# Altium schematic symbol library DANCE_LIB_REV2.SchLib: 136 symbols (part 2 of 2)
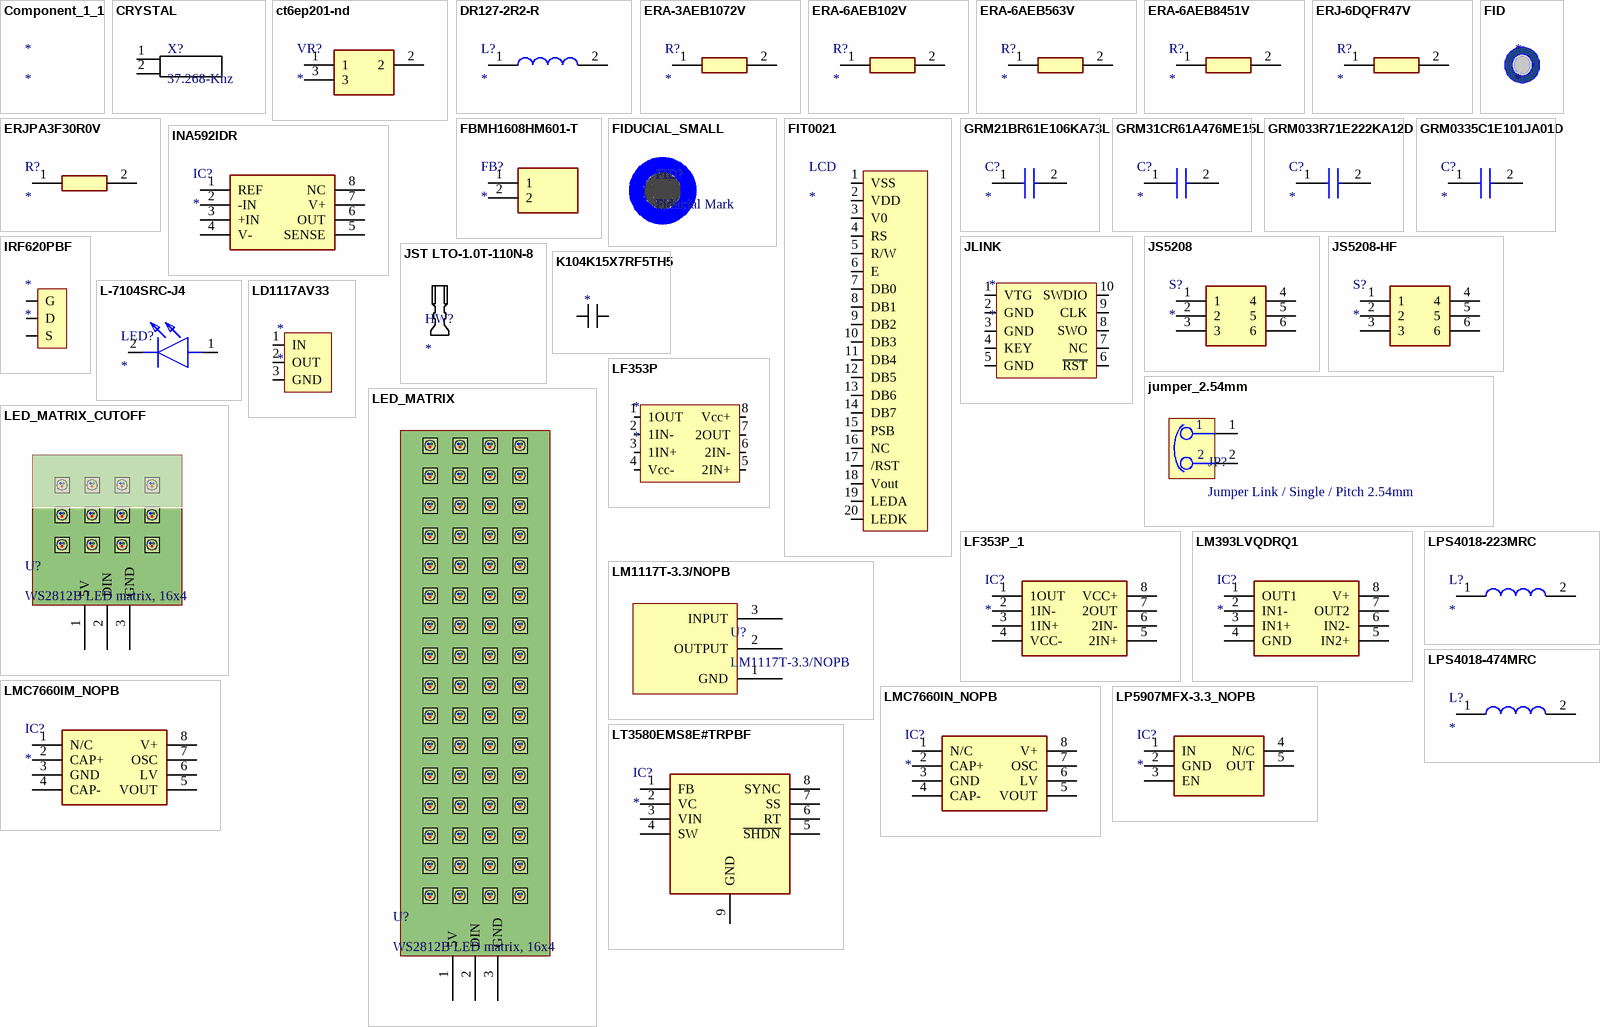
[diagram p4: symbols Component_1_1 to LT3580EMS8E#TRPBF]

## LMC7660IN_NOPB
designator IC?
Integrated Circuit; Manufacturer_Name: Texas Instruments; Manufacturer_Part_Number: LMC7660IN/NOPB; Datasheet Link: http://www.ti.com/lit/gpn/lmc7660; Height: 5.08mm; Mouser Part Number: 926-LMC7660IN/NOPB; Mouser Price/Stock: https://www.mouser.co.uk/ProductDetail/Texas-Instruments/LMC7660IN-NOPB?qs=7lkVKPoqpbYEdm6mfQWnbw%3D%3D; Arrow Part Number: LMC7660IN/NOPB; Arrow Price/Stock: https://www.arrow.com/en/products/lmc7660innopb/texas-instruments?region=nac
footprint DIP794W53P254L959H508Q8N
pins: 1 N/C, 2 CAP+, 3 GND, 4 CAP-, 5 VOUT, 6 LV, 7 OSC, 8 V+

## LP5907MFX-3.3_NOPB
designator IC?
Integrated Circuit; Manufacturer_Name: Texas Instruments; Manufacturer_Part_Number: LP5907MFX-3.3/NOPB; Datasheet Link: https://datasheet.datasheetarchive.com/originals/distributors/Datasheets-SFU2/DSASFU100037200.pdf; Height: 1.45mm; Mouser Part Number: 595-LP5907MFX-3.3NPB; Mouser Price/Stock: https://www.mouser.co.uk/ProductDetail/Texas-Instruments/LP5907MFX-3.3-NOPB?qs=biyDIajrTn6NhrJCoL%2FdSQ%3D%3D; Arrow Part Number: LP5907MFX-3.3/NOPB; Arrow Price/Stock: https://www.arrow.com/en/products/lp5907mfx-3.3nopb/texas-instruments?utm_currency=USD&region=nac
footprint SOT95P280X145-5N
pins: 1 IN, 2 GND, 3 EN, 4 N/C, 5 OUT

## LPS4018-223MRC
designator L?
Inductor; Manufacturer_Name: COILCRAFT; Manufacturer_Part_Number: LPS4018-223MRC; Datasheet Link: https://www.coilcraft.com/pdfs/lps4018.pdf; Height: 1.8mm; Mouser Part Number: 994-LPS4018-223MRC; Mouser Price/Stock: https://www.mouser.co.uk/ProductDetail/Coilcraft/LPS4018-223MRC?qs=QQJxVsr8EGZ1iTyTHMP0jg%3D%3D
footprint LPS4018223MRC
pins: 1, 2

## LPS4018-474MRC
designator L?
Inductor; Manufacturer_Name: COILCRAFT; Manufacturer_Part_Number: LPS4018-474MRC; Datasheet Link: https://www.coilcraft.com/getmedia/31b05c96-4c4c-4498-8dbb-fe092de76bad/lps4018.pdf; Height: 1.8mm; Mouser Part Number: 994-LPS4018-474MRC; Mouser Price/Stock: https://www.mouser.co.uk/ProductDetail/Coilcraft/LPS4018-474MRC?qs=QQJxVsr8EGb2vAIMxceghQ%3D%3D
footprint LPS4018474MRC
pins: 1, 2

## LT3580EMS8E#TRPBF
designator IC?
Integrated Circuit; Manufacturer_Name: Analog Devices; Manufacturer_Part_Number: LT3580EMS8E#TRPBF; Datasheet Link: https://www.analog.com/LT3580/datasheet; Height: 1.1mm; Mouser Part Number: 584-LT3580EMS8ETRPBF; Mouser Price/Stock: https://www.mouser.co.uk/ProductDetail/Analog-Devices/LT3580EMS8ETRPBF?qs=hVkxg5c3xu8cvBOlVyNweg%3D%3D; Arrow Part Number: LT3580EMS8E#TRPBF; Arrow Price/Stock: https://www.arrow.com/en/products/lt3580ems8etrpbf/analog-devices?region=nac
footprint SOP65P490X110-9N
pins: 1 FB, 2 VC, 3 VIN, 4 SW, 5 ~{SHDN}, 6 RT, 7 SS, 8 SYNC, 9 GND

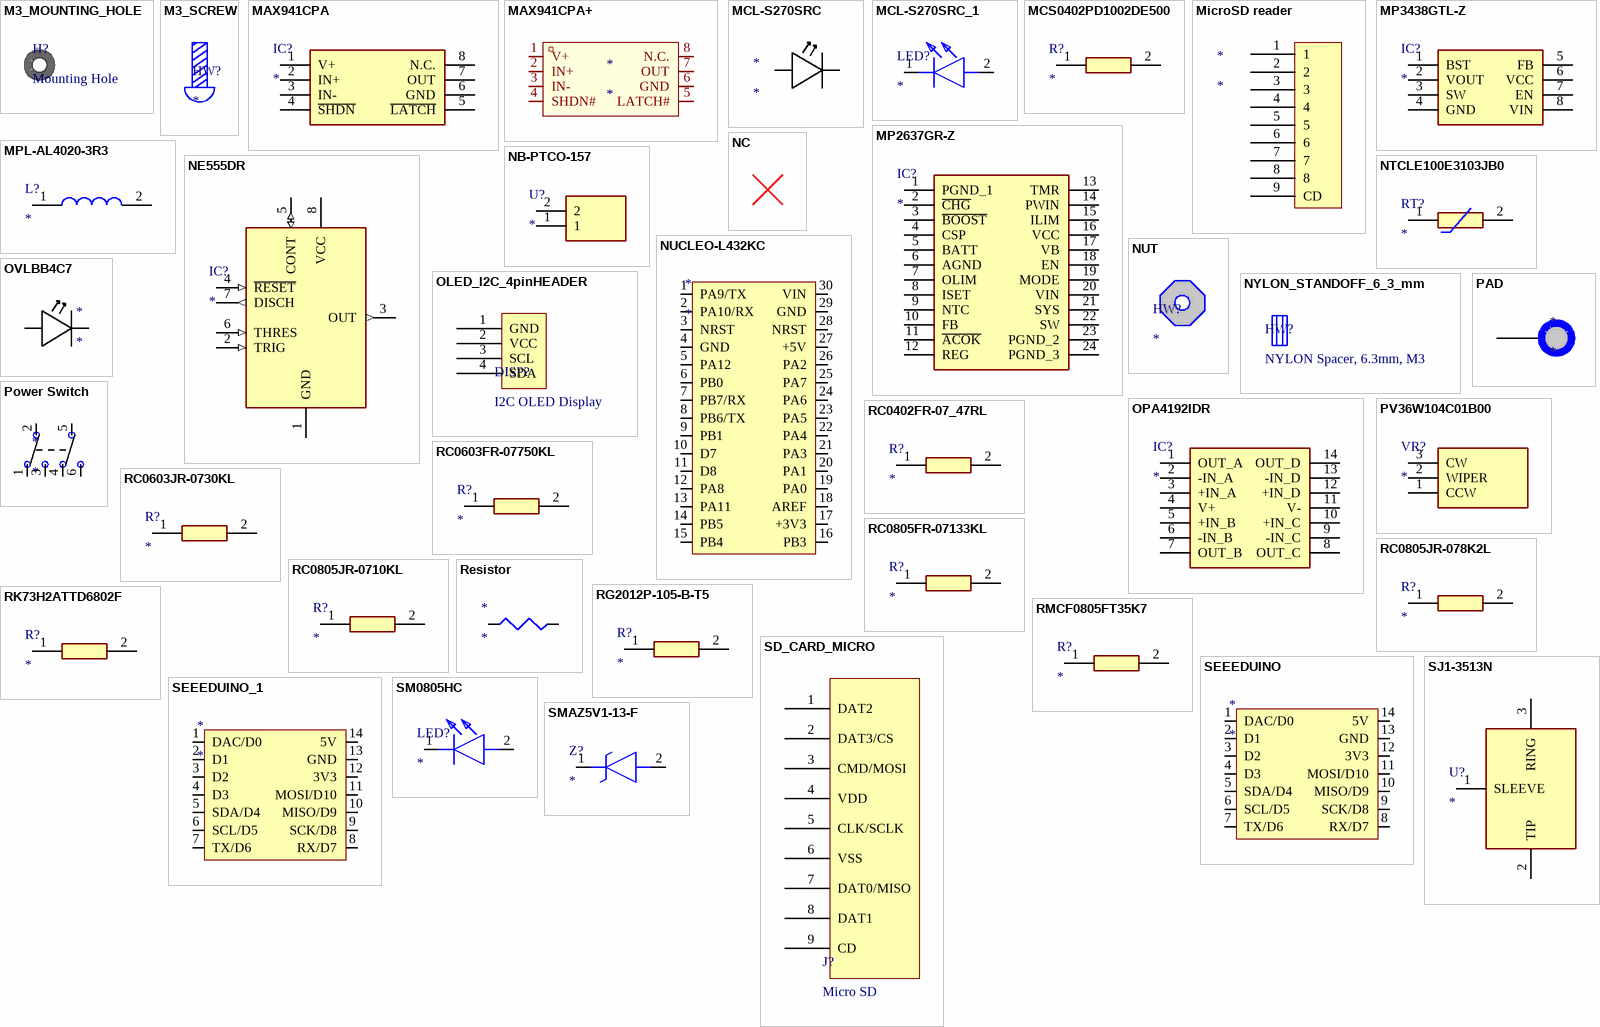
[diagram p2: symbols M3_MOUNTING_HOLE to SMAZ5V1-13-F]

## M3_MOUNTING_HOLE
designator H?, comment Mounting Hole
M3 Mounting hole (3.4mm)
footprint M3_MOUNTING_HOLE_3_4_mm

## M3_SCREW
designator HW?

## MAX941CPA
designator IC?
Integrated Circuit; Manufacturer_Name: Analog Devices; Manufacturer_Part_Number: MAX941CPA; Datasheet Link: https://datasheets.maximintegrated.com/en/ds/MAX941-MAX944.pdf; Height: 4.572mm; Mouser Part Number: 700-MAX941CPA-NR; Mouser Price/Stock: https://www.mouser.co.uk/ProductDetail/Maxim-Integrated/MAX941CPA?qs=d3kjJb5aE2ahdXQCB6GxHQ%3D%3D
footprint DIP794W56P254L938H457Q8N
pins: 1 V+, 2 IN+, 3 IN-, 4 ~{SHDN}, 5 ~{LATCH}, 6 GND, 7 OUT, 8 N.C.

## MAX941CPA+
designator *
footprint MAX1
pins: 1 V+, 2 IN+, 3 IN-, 4 SHDN#, 5 LATCH#, 6 GND, 7 OUT, 8 N.C.

## MCL-S270SRC
designator *
Led, SMD, 0805, Super-red; Manufacturer: Multicomp; Manufacturer Part Number: MCL-S270SRC; Forward Voltage: 1.85V; Luminous Intensity: 17mcd; Wavelength: 643nm; Viewing Angle: 140°; Current Rating: 20mA; Lens Style: Rectangular; Max Power Dissipation: 100mW; Supplier 1: Farnell; RoHS: Yes; Category: LEDs; Pricing 1: 5=0.101, 10=0.0866, 100=0.0673, 500=0.0551, 1000=0.0505 (GBP); Mount: Surface Mount; Case/Package: 0805; Number of Pins: 2; Color: Red; Min Operating Temperature: -40°C; Max Operating Temperature: 85°C; Packaging: Cut Tape; Forward Current: 20mA; Dominant Wavelength: 643nm; Power Dissipation: 100mW; Reach SVHC Compliant: No; ComponentLink1URL: https://datasheet.ciiva.com/23621/53023-23621319.pdf?src-supplier=Newark; ComponentLink1Description: https://datasheet.ciiva.com/23621/53023-23621319.pdf?src-supplier=Newark; ComponentLink2URL: https://datasheet.ciiva.com/8028/1671534-8028336.pdf?src-supplier=Element14; ComponentLink2Description: https://datasheet.ciiva.com/8028/1671534-8028336.pdf?src-supplier=Element14; Supplier Part Number 1: 1581239
footprint LED SURFACE MOUNT
pins: 1 2, 2 1

## MCL-S270SRC_1
designator LED?
LED; Manufacturer_Name: Multicomp Pro; Manufacturer_Part_Number: MCL-S270SRC; Datasheet Link: https://www.farnell.com/datasheets/2861594.pdf; Height: 0.9mm
footprint LEDC2012X90N
pins: 1 K, 2 A

## MCS0402PD1002DE500
designator R?
Resistor; Manufacturer_Name: Vishay; Manufacturer_Part_Number: MCS0402PD1002DE500; Datasheet Link: http://www.vishay.com/docs/28705/mcx0x0xpro.pdf; Height: 0.37mm; Mouser Part Number: 594-MCS0402PD1002DP5; Mouser Price/Stock: https://www.mouser.co.uk/ProductDetail/Vishay-Beyschlag/MCS0402PD1002DE500?qs=5aG0NVq1C4zR%252BBMz07%252BcAg%3D%3D; Arrow Part Number: MCS0402PD1002DE500; Arrow Price/Stock: https://www.arrow.com/en/products/mcs0402pd1002de500/vishay
footprint RESC1005X37N
pins: 1, 2

## MicroSD reader
designator *
footprint SD CARD
pins: 1, 2, 3, 4, 5, 6, 7, 8, 9 CD

## MP2637GR-Z
designator IC?
Integrated Circuit; Manufacturer_Name: Monolithic Power Systems (MPS); Manufacturer_Part_Number: MP2637GR-Z; Datasheet Link: http://www.monolithicpower.com/DesktopModules/DocumentManage/API/Document/getDocument?id=3326; Height: 1mm; Mouser Part Number: 946-MP2637GR-Z; Mouser Price/Stock: https://www.mouser.co.uk/ProductDetail/Monolithic-Power-Systems-MPS/MP2637GR-Z?qs=493kPxzlxfKNmuqrCqIh9g%3D%3D
footprint MP2637GRZ
pins: 1 PGND_1, 2 ~{CHG}, 3 ~{BOOST}, 4 CSP, 5 BATT, 6 AGND, 7 OLIM, 8 ISET, 9 NTC, 10 FB, 11 ~{ACOK}, 12 REG, 13 TMR, 14 PWIN, 15 ILIM, 16 VCC, 17 VB, 18 EN, 19 MODE, 20 VIN, 21 SYS, 22 SW, 23 PGND_2, 24 PGND_3

## MP3438GTL-Z
designator IC?
Integrated Circuit; Manufacturer_Name: Monolithic Power Systems (MPS); Manufacturer_Part_Number: MP3438GTL-Z; Datasheet Link: https://www.monolithicpower.com/en/documentview/productdocument/index/version/2/document_type/Datasheet/lang/en/sku/MP3438GTL/; Height: 0.6mm; Mouser Part Number: 946-MP3438GTL-Z; Mouser Price/Stock: https://www.mouser.co.uk/ProductDetail/Monolithic-Power-Systems-MPS/MP3438GTL-Z?qs=tlsG%2FOw5FFjfFO8TaWv5UA%3D%3D
footprint SOTFL50P160X60-8N
pins: 1 BST, 2 VOUT, 3 SW, 4 GND, 5 FB, 6 VCC, 7 EN, 8 VIN

## MPL-AL4020-3R3
designator L?
Inductor; Manufacturer_Name: Monolithic Power Systems (MPS); Manufacturer_Part_Number: MPL-AL4020-3R3; Datasheet Link: https://www.monolithicpower.com/en/documentview/productdocument/index/version/2/document_type/Datasheet/lang/en/sku/MPL-AL4020-3R3/document_id/5795/; Height: 2.1mm; Mouser Part Number: 946-MPL-AL4020-3R3; Mouser Price/Stock: https://www.mouser.co.uk/ProductDetail/Monolithic-Power-Systems-MPS/MPL-AL4020-3R3?qs=sPbYRqrBIVnE90fmE2PrGQ%3D%3D
footprint MPLAL40203R3
pins: 1, 2

## NB-PTCO-157
designator U?
Undefined or Miscellaneous; Manufacturer_Name: TE Connectivity; Manufacturer_Part_Number: NB-PTCO-157; Datasheet Link: https://www.te.com/commerce/DocumentDelivery/DDEController?Action=srchrtrv&DocNm=PTF-FAMILY&DocType=Data%20Sheet&DocLang=English&PartCntxt=NB-PTCO-157&DocFormat=pdf; Height: 2.5mm; Mouser Part Number: 824-NB-PTCO-157; Mouser Price/Stock: https://www.mouser.co.uk/ProductDetail/Measurement-Specialties/NB-PTCO-157?qs=oFx6pF86PmBL8z2guunwvA%3D%3D; Arrow Part Number: NB-PTCO-157; Arrow Price/Stock: https://www.arrow.com/en/products/nb-ptco-157/te-connectivity?utm_currency=USD&region=nac
footprint NBPTCO157
pins: 1, 2

## NC
designator *  (value not drawn)

## NE555DR
designator IC?
Integrated Circuit; Manufacturer_Name: Texas Instruments; Manufacturer_Part_Number: NE555DR; Datasheet Link: http://www.ti.com/lit/ds/symlink/ne555.pdf; Height: 1.75mm; Mouser Part Number: 595-NE555DR; Mouser Price/Stock: https://www.mouser.com/Search/Refine.aspx?Keyword=595-NE555DR; RS Part Number: 1218414; RS Price/Stock: http://uk.rs-online.com/web/p/products/1218414
footprint SOIC127P600X175-8N
pins: 1 GND (power), 2 TRIG (in), 3 OUT (out), 4 ~{RESET} (in), 5 CONT (io), 6 THRES (in), 7 DISCH (out), 8 VCC (power)

## NTCLE100E3103JB0
designator RT?
Thermistor; Manufacturer_Name: Vishay; Manufacturer_Part_Number: NTCLE100E3103JB0; Datasheet Link: https://www.vishay.com/docs/29049/ntcle100.pdf; Height: 10mm; Mouser Part Number: 594-2381-640-63103; Mouser Price/Stock: https://www.mouser.co.uk/ProductDetail/Vishay-BC-Components/NTCLE100E3103JB0?qs=MSh2oj3GFQcs%2FteGkdbngw%3D%3D; Arrow Part Number: NTCLE100E3103JB0; Arrow Price/Stock: https://www.arrow.com/en/products/ntcle100e3103jb0/vishay?utm_currency=USD&region=europe
footprint NTCLE100E3103JB0
pins: 1, 2

## NUCLEO-L432KC
designator *
STM32 Nucleo-32 development board with STM32L432KC MCU, supports Arduino connectivity; Manufacturer: STMicroelectronics; Manufacturer Part Number: NUCLEO-L432KC; Evaluation Kit: Yes; Number of Bits: 32; Core Architecture: ARM; Supplier 1: Digikey; RoHS: Yes; Category: Embedded Processors and Controllers; Stock 1: 15; Pricing 1: 1=11.04 (USD); Series: STM32L4; Reach SVHC Compliant: No; Lead Free: Lead Free; ComponentLink1URL: http://www.farnell.com/datasheets/2064195.pdf?src-supplier=Farnell; ComponentLink1Description: http://www.farnell.com/datasheets/2064195.pdf?src-supplier=Farnell; ComponentLink2URL: http://www.st.com/content/ccc/resource/technical/document/data_brief/b1/d8/13/d4/b0/b7/4b/6e/DM00214578.pdf/files/DM00214578.pdf/jcr:content/translations/en.DM00214578.pdf?src-supplier=Digikey; ComponentLink2Description: http://www.st.com/content/ccc/resource/technical/document/data_brief/b1/d8/13/d4/b0/b7/4b/6e/DM00214578.pdf/files/DM00214578.pdf/jcr:content/translations/en.DM00214578.pdf?src-supplier=Digikey; ComponentLink3URL: https://datasheet.octopart.com/NUCLEO-L432KC-STMicroelectronics-datasheet-145015089.pdf?src-supplier=Future+Electronics; ComponentLink3Description: https://datasheet.octopart.com/NUCLEO-L432KC-STMicroelectronics-datasheet-145015089.pdf?src-supplier=Future+Electronics; ComponentLink4URL: https://datasheet.octopart.com/NUCLEO-L432KC-STMicroelectronics-datasheet-62334095.pdf?src-supplier=Element14; ComponentLink4Description: https://datasheet.octopart.com/NUCLEO-L432KC-STMicroelectronics-datasheet-62334095.pdf?src-supplier=Element14; ComponentLink5URL: http://www.farnell.com/datasheets/2064195.pdf?src-supplier=Element14; ComponentLink5Description: http://www.farnell.com/datasheets/2064195.pdf?src-supplier=Element14; Supplier Part Number 1: 497-16592-ND
footprint NUCLEO STM32
pins: 1 PA9/TX, 2 PA10/RX, 3 NRST, 4 GND, 5 PA12, 6 PB0, 7 PB7/RX, 8 PB6/TX, 9 PB1, 10 D7, 11 D8, 12 PA8, 13 PA11, 14 PB5, 15 PB4, 16 PB3, 17 +3V3, 18 AREF, 19 PA0, 20 PA1, 21 PA3, 22 PA4, 23 PA5, 24 PA6, 25 PA7, 26 PA2, 27 +5V, 28 NRST, 29 GND, 30 VIN

## NUT
designator HW?

## NYLON_STANDOFF_6_3_mm
designator HW?, comment NYLON Spacer, 6.3mm, M3
Spacer / Female - Female / Nylon / Hexagonal / M3 x 06.3

## OLED_I2C_4pinHEADER
designator DISP?, comment I2C OLED Display
OLED_I2C_4pinHEADER Large clear space
footprint OLED_I2C_4pinHEADER (OLED DISPLAY I2C 4 pin header)
pins: 1 GND, 2 VCC, 3 SCL, 4 SDA

## OPA4192IDR
designator IC?
Integrated Circuit; Manufacturer_Name: Texas Instruments; Manufacturer_Part_Number: OPA4192IDR; Datasheet Link: http://www.ti.com/lit/gpn/OPA4192; Height: 1.75mm; Mouser Part Number: 595-OPA4192IDR; Mouser Price/Stock: https://www.mouser.co.uk/ProductDetail/Texas-Instruments/OPA4192IDR?qs=yajEpaT76uTaZoh6JjFosw%3D%3D; Arrow Part Number: OPA4192IDR; Arrow Price/Stock: https://www.arrow.com/en/products/opa4192idr/texas-instruments?utm_currency=USD&region=nac
footprint SOIC127P600X175-14N
pins: 1 OUT_A, 2 -IN_A, 3 +IN_A, 4 V+, 5 +IN_B, 6 -IN_B, 7 OUT_B, 8 OUT_C, 9 -IN_C, 10 +IN_C, 11 V-, 12 +IN_D, 13 -IN_D, 14 OUT_D

## OVLBB4C7
designator *
Round through-hole LED lamp (3 mm), Color Blue, Vf 3.2 V, Radial-2, RoHS; Manufacturer: TT Optek; Manufacturer Part Number: OVLBB4C7; Lens Color: Colorless; Luminous Intensity: 900mcd; Viewing Angle: 45°; Forward Voltage: 3.2V; Lens Style: Dome,Round,Clear; Wavelength: 470nm; Forward Current: 20mA; Lens Transparency: Clear; Number of Elements: 1; Power Dissipation: 100W; Reverse Voltage: 5V; Lead Length: 23.9mm; Supplier 1: Digikey; RoHS: Yes; Category: LEDs; Stock 1: 79008; Pricing 1: 1=0.42, 100=0.37, 250=0.36, 500=0.35, 1000=0.33, 2500=0.32, 5000=0.3125 (USD); Mount: Through Hole; Case/Package: Radial; Number of Pins: 2; Color: Blue; Min Operating Temperature: -40°C; Max Operating Temperature: 100°C; Packaging: Bulk; Package Quantity: 500; Illumination Color: Blue; Dominant Wavelength: 470nm; Test Current: 20mA; Series: -; Length: 3mm; Height: 5.35mm; Depth: 3mm; Radiation Hardening: No; Reach SVHC Compliant: No; Lead Free: Lead Free; RoHS Compliant: Yes; ComponentLink1URL: https://datasheet.ciiva.com/2113/ovlbb4c7-2113449.pdf?src-supplier=Digikey; ComponentLink1Description: https://datasheet.ciiva.com/2113/ovlbb4c7-2113449.pdf?src-supplier=Digikey; ComponentLink2URL: https://datasheet.ciiva.com/4692/ovlby4c7-209007-4692091.pdf?src-supplier=Mouser; ComponentLink2Description: https://datasheet.ciiva.com/4692/ovlby4c7-209007-4692091.pdf?src-supplier=Mouser; ComponentLink3URL: https://datasheet.ciiva.com/7647/9202-7647361.pdf?src-supplier=Element14; ComponentLink3Description: https://datasheet.ciiva.com/7647/9202-7647361.pdf?src-supplier=Element14; ComponentLink4URL: https://datasheet.ciiva.com/8028/ovlbb4c7-8028683.pdf?src-supplier=Element14; ComponentLink4Description: https://datasheet.ciiva.com/8028/ovlbb4c7-8028683.pdf?src-supplier=Element14; ComponentLink5URL: https://datasheet.ciiva.com/7043/1658077-7043303.pdf?src-supplier=Newark; ComponentLink5Description: https://datasheet.ciiva.com/7043/1658077-7043303.pdf?src-supplier=Newark; Supplier Part Number 1: 365-1173-ND
footprint LED
pins: 1, 2

## PAD
designator *
footprint PAD
pins: 1

## Power Switch
designator *
footprint Power Switch
pins: 1 9, 2 7, 3 10, 4 11, 5 8, 6 12

## PV36W104C01B00
designator VR?
Variable Resistor; Manufacturer_Name: Bourns; Manufacturer_Part_Number: PV36W104C01B00; Datasheet Link: https://www.bourns.com/docs/Product-Datasheets/pv36.pdf; Height: 10.03mm; Mouser Part Number: 81-PV36W104C01B00; Mouser Price/Stock: https://www.mouser.co.uk/ProductDetail/Bourns/PV36W104C01B00?qs=ifmdR88tEJ9s2DMKM%252Bry%252BA%3D%3D; Arrow Part Number: PV36W104C01B00; Arrow Price/Stock: https://www.arrow.com/en/products/pv36w104c01b00/bourns?utm_currency=USD&region=nac
footprint PV36W201C01B00
pins: 1 CCW, 2 WIPER, 3 CW

## RC0402FR-07_47RL
designator R?
Resistor; Manufacturer_Name: KEMET; Manufacturer_Part_Number: RC0402FR-07 47RL; Datasheet Link: http://www.yageo.com/documents/recent/PYu-RC0402_51_RoHS_L_6_r.pdf; Height: 0.4mm; Arrow Part Number: RC0402FR-07 47RL; Arrow Price/Stock: https://www.arrow.com/en/products/rc0402fr-0747rl/yageo
footprint RESC1005X40N
pins: 1, 2

## RC0603FR-07750KL
designator R?
Resistor; Manufacturer_Name: KEMET; Manufacturer_Part_Number: RC0603FR-07750KL; Datasheet Link: http://www.yageo.com/documents/recent/PYu-RC0603_51_RoHS_L_v5.pdf; Height: 0.55mm; Mouser Part Number: 603-RC0603FR-07750KL; Mouser Price/Stock: https://www.mouser.com/Search/Refine.aspx?Keyword=603-RC0603FR-07750KL
footprint RESC1608X55N
pins: 1, 2

## RC0603JR-0730KL
designator R?
Resistor; Manufacturer_Name: KEMET; Manufacturer_Part_Number: RC0603JR-0730KL; Datasheet Link: http://www.yageo.com/documents/recent/PYu-RC0603_51_RoHS_L_v5.pdf; Height: 0.55mm; Mouser Part Number: 603-RC0603JR-0730KL; Mouser Price/Stock: https://www.mouser.com/Search/Refine.aspx?Keyword=603-RC0603JR-0730KL
footprint RESC1608X55N
pins: 1, 2

## RC0805FR-07133KL
designator R?
Resistor; Manufacturer_Name: KEMET; Manufacturer_Part_Number: RC0805FR-07133KL; Datasheet Link: http://www.yageo.com/documents/recent/PYu-RC_Group_51_RoHS_L_10.pdf; Height: 0.6mm; Mouser Part Number: 603-RC0805FR-07133KL; Mouser Price/Stock: http://www.mouser.com/Search/ProductDetail.aspx?qs=fRxXYNj8ftGV8XDcfjhcrw%3d%3d
footprint RESC2012X60N
pins: 1, 2

## RC0805JR-078K2L
designator R?
Resistor; Manufacturer_Name: KEMET; Manufacturer_Part_Number: RC0805JR-078K2L; Datasheet Link: http://www.yageo.com/documents/recent/PYu-RC_Group_51_RoHS_L_10.pdf; Height: 0.6mm
footprint RESC2012X60N
pins: 1, 2

## RC0805JR-0710KL
designator R?
Resistor; Manufacturer_Name: YAGEO; Manufacturer_Part_Number: RC0805JR-0710KL; Datasheet Link: https://componentsearchengine.com/Datasheets/2/RC0805JR-0710KL.pdf; Height: 0.6mm; Mouser Part Number: 603-RC0805JR-0710KL; Mouser Price/Stock: https://www.mouser.co.uk/ProductDetail/YAGEO/RC0805JR-0710KL?qs=ZFGQJeMQzF5q%2Fp77vM%2FrVQ%3D%3D; Arrow Part Number: RC0805JR-0710KL; Arrow Price/Stock: https://www.arrow.com/en/products/rc0805jr-0710kl/yageo?region=nac
footprint RESC2012X60N
pins: 1, 2

## Resistor
designator *
Fixed Resistor, Thin Film, 0.6W, 10000ohm, 350V, 1% +/-Tol, 50ppm/Cel, Through Hole Mount; Manufacturer: Vishay BCcomponents; Manufacturer Part Number: MRS25000C1002FRP00; Resistance: 10kR; Temperature Coefficient: 50ppm/°C; Power Rating: 600mW; Lead Diameter: 0.6mm; Supplier 1: Digikey; RoHS: Yes; Category: Through-Hole Resistors; Stock 1: 11724; Case/Package: Axial; Number of Pins: 2; Contact Plating: Tin; Min Operating Temperature: -55°C; Max Operating Temperature: 155°C; Tolerance: 1%; Resistor Type: Metal Film; Packaging: Cut Tape; Termination: Axial; Voltage Rating: 350V; Package Quantity: 1; Number of Terminations: 2; Max Power Dissipation: 600mW; Voltage Rating (DC): 350V; Series: MRS25; Resistance Tolerance: 1%; Technology: METAL FILM; Diameter: 2.5mm; Length: 6.5mm; Width: 2.5mm; Radiation Hardening: No; Lead Free: Lead Free; RoHS Compliant: Yes; Reach SVHC Compliant: Unknown; ComponentLink1URL: https://datasheet.ciiva.com/8399/mrs16m25-8399786.pdf?src-supplier=Avnet; ComponentLink1Description: https://datasheet.ciiva.com/8399/mrs16m25-8399786.pdf?src-supplier=Avnet; ComponentLink2URL: https://datasheet.ciiva.com/3258/mrs16m25-3258505.pdf?src-supplier=Avnet; ComponentLink2Description: https://datasheet.ciiva.com/3258/mrs16m25-3258505.pdf?src-supplier=Avnet; ComponentLink3URL: https://datasheet.ciiva.com/48465/mrs16m25-48465878.pdf?src-supplier=Avnet; ComponentLink3Description: https://datasheet.ciiva.com/48465/mrs16m25-48465878.pdf?src-supplier=Avnet; ComponentLink4URL: https://datasheet.ciiva.com/7836/mrs16m25-7836236.pdf?src-supplier=Element14; ComponentLink4Description: https://datasheet.ciiva.com/7836/mrs16m25-7836236.pdf?src-supplier=Element14; ComponentLink5URL: https://datasheet.ciiva.com/2710/mrs16m25-2710776.pdf?src-supplier=Digikey; ComponentLink5Description: https://datasheet.ciiva.com/2710/mrs16m25-2710776.pdf?src-supplier=Digikey; ComponentLink6URL: https://datasheet.ciiva.com/2710/mrs16m25-2710777.pdf?src-supplier=Digikey; ComponentLink6Description: https://datasheet.ciiva.com/2710/mrs16m25-2710777.pdf?src-supplier=Digikey; Supplier Part Number 1: PPC10.0KZCT-ND
footprint RESISTOR SM
pins: 1, 2

## RG2012P-105-B-T5
designator R?
Resistor; Manufacturer_Name: Susumu; Manufacturer_Part_Number: RG2012P-105-B-T5; Datasheet Link: https://componentsearchengine.com/Datasheets/1/RG2012P-105-B-T5.pdf; Height: 0.5mm; Mouser Part Number: 754-RG2012P-105-B-T5; Mouser Price/Stock: https://www.mouser.co.uk/ProductDetail/Susumu/RG2012P-105-B-T5?qs=juJhw1yPxAGByirLlL9gEQ%3D%3D; Arrow Part Number: RG2012P-105-B-T5; Arrow Price/Stock: https://www.arrow.com/en/products/rg2012p-105-b-t5/susumu?region=europe
footprint RESC2012X50N
pins: 1, 2

## RK73H2ATTD6802F
designator R?
Resistor; Manufacturer_Name: KOA Speer; Manufacturer_Part_Number: RK73H2ATTD6802F; Datasheet Link: http://www.koaspeer.com/catimages/Products/RK73H/RK73H.pdf; Height: 0.6mm; Mouser Part Number: 660-RK73H2ATTD6802F; Mouser Price/Stock: https://www.mouser.com/Search/Refine.aspx?Keyword=660-RK73H2ATTD6802F; Arrow Part Number: RK73H2ATTD6802F; Arrow Price/Stock: https://www.arrow.com/en/products/rk73h2attd6802f/koa-speer-electronics
footprint RESC2012X60N
pins: 1, 2

## RMCF0805FT35K7
designator R?
Resistor; Manufacturer_Name: Stackpole Electronics; Manufacturer_Part_Number: RMCF0805FT35K7; Datasheet Link: https://cs.seielect.com/catalog/SEI-RMCF_RMCP.pdf; Height: 0.65mm
footprint RESC2012X65N
pins: 1, 2

## SD_CARD_MICRO
designator J?, comment Micro SD
ETSG
footprint SD CARD
pins: 1 DAT2, 2 DAT3/CS, 3 CMD/MOSI, 4 VDD, 5 CLK/SCLK, 6 VSS, 7 DAT0/MISO, 8 DAT1, 9 CD

## SEEEDUINO
designator *
SAMD21 Microcontroller Development Board 0.0327MHz/48MHzCPU 32KB RAM 256KB Flash; Manufacturer: Seeed Studio; Manufacturer Part Number: 102010328; Evaluation Kit: Yes; Core Architecture: ARM; Supplier 1: Digikey; RoHS: No; Category: DSPs - Digital Signal Processors; Stock 1: 2211; Pricing 1: 1=5.4 (USD); Series: SAM D; ComponentLink1URL: https://media.digikey.com/pdf/Data%20Sheets/Seeed%20Technology/102010328_Web.pdf?src-supplier=Digikey; ComponentLink1Description: https://media.digikey.com/pdf/Data%20Sheets/Seeed%20Technology/102010328_Web.pdf?src-supplier=Digikey; Supplier Part Number 1: 1597-102010328-ND
footprint XIAO
footprint XIAO - 6mm annular
pins: 1 DAC/D0, 2 D1, 3 D2, 4 D3, 5 SDA/D4, 6 SCL/D5, 7 TX/D6, 8 RX/D7, 9 SCK/D8, 10 MISO/D9, 11 MOSI/D10, 12 3V3, 13 GND, 14 5V

## SEEEDUINO_1
designator *
SAMD21 Microcontroller Development Board 0.0327MHz/48MHzCPU 32KB RAM 256KB Flash; Manufacturer: Seeed Studio; Manufacturer Part Number: 102010328; Evaluation Kit: Yes; Core Architecture: ARM; Supplier 1: Digikey; RoHS: No; Category: DSPs - Digital Signal Processors; Stock 1: 2211; Pricing 1: 1=5.4 (USD); Series: SAM D; ComponentLink1URL: https://media.digikey.com/pdf/Data%20Sheets/Seeed%20Technology/102010328_Web.pdf?src-supplier=Digikey; ComponentLink1Description: https://media.digikey.com/pdf/Data%20Sheets/Seeed%20Technology/102010328_Web.pdf?src-supplier=Digikey; Supplier Part Number 1: 1597-102010328-ND
footprint XIAO
footprint XIAO
pins: 1 DAC/D0, 2 D1, 3 D2, 4 D3, 5 SDA/D4, 6 SCL/D5, 7 TX/D6, 8 RX/D7, 9 SCK/D8, 10 MISO/D9, 11 MOSI/D10, 12 3V3, 13 GND, 14 5V

## SJ1-3513N
designator U?
Undefined or Miscellaneous; Manufacturer_Name: Same Sky; Manufacturer_Part_Number: SJ1-3513N; Datasheet Link: https://www.sameskydevices.com/product/resource/sj1-351xn.pdf; Height: 6mm; Mouser Part Number: 490-SJ1-3513N; Mouser Price/Stock: https://www.mouser.co.uk/ProductDetail/Same-Sky/SJ1-3513N?qs=WyjlAZoYn501Uyi9N5Ym3w%3D%3D; Arrow Part Number: SJ1-3513N; Arrow Price/Stock: https://www.arrow.com/en/products/sj1-3513n/cui-devices?region=nac
footprint SJ13513N
footprint SJ13513N - stubby silk
pins: 1 SLEEVE, 2 TIP, 3 RING

## SM0805HC
designator LED?
LED; Manufacturer_Name: Bivar; Manufacturer_Part_Number: SM0805HC; Datasheet Link: https://www.arrow.com/en/products/sm0805hc/bivar?region=nac; Height: 0.8mm; Mouser Part Number: 749-SM0805HC; Mouser Price/Stock: https://www.mouser.co.uk/ProductDetail/Bivar/SM0805HC?qs=jaLxTFIJCitzwkI3Y6uptQ%3D%3D; Arrow Part Number: SM0805HC; Arrow Price/Stock: https://www.arrow.com/en/products/sm0805hc/bivar?region=nac
footprint LEDC2012X80N
pins: 1 K, 2 A

## SMAZ5V1-13-F
designator Z?
Zener Diode; Manufacturer_Name: Diodes Incorporated; Manufacturer_Part_Number: SMAZ5V1-13-F; Datasheet Link: https://componentsearchengine.com/Datasheets/2/SMAZ5V1-13-F.pdf; Height: 2.4mm; Mouser Part Number: 621-SMAZ5V1-F; Mouser Price/Stock: https://www.mouser.co.uk/ProductDetail/Diodes-Incorporated/SMAZ5V1-13-F?qs=S1c9RlDvu%252BxZqL2mgQBPYg%3D%3D; Arrow Part Number: SMAZ5V1-13-F; Arrow Price/Stock: https://www.arrow.com/en/products/smaz5v1-13-f/diodes-incorporated?utm_currency=USD&region=nac
footprint DIOM5226X240N
pins: 1 K, 2 A

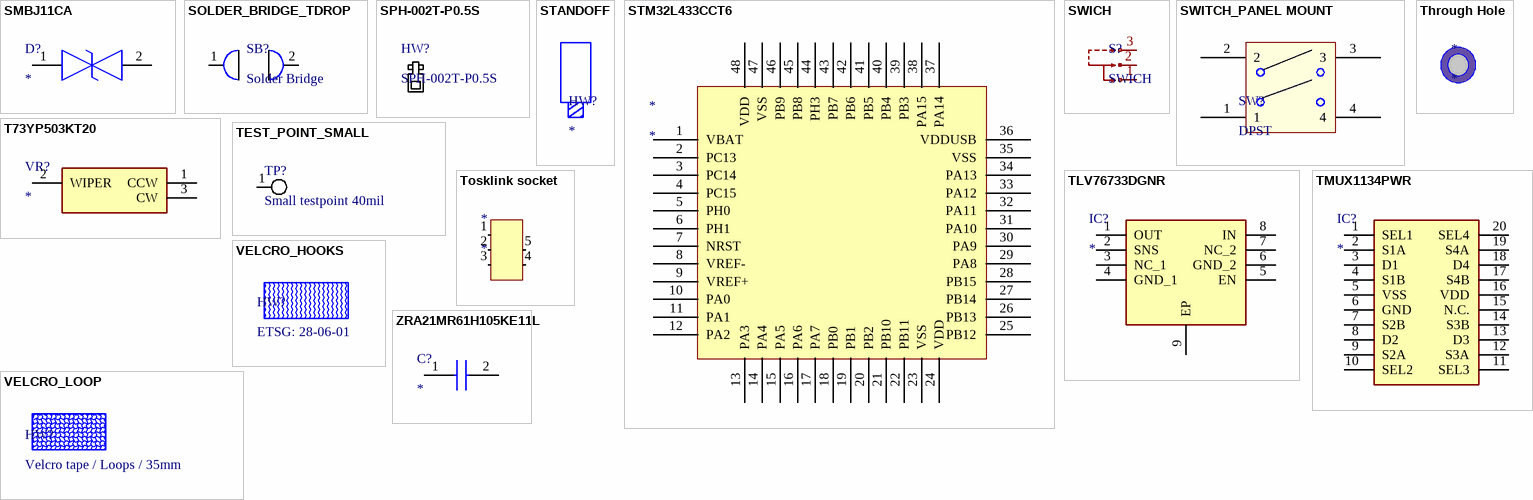
[diagram p3: symbols SMBJ11CA to ZRA21MR61H105KE11L]

## SMBJ11CA
designator D?
TVS Diode (Bi-directional); Manufacturer_Name: Taiwan Semiconductor; Manufacturer_Part_Number: SMBJ11CA; Datasheet Link: https://www.littelfuse.com/assetdocs/tvs-diodes-smbj-series-datasheet?assetguid=09a6ae9a-73cb-4ac4-acac-e6dab92ab953; Height: 2.61mm; Mouser Part Number: 821-SMBJ11CA; Mouser Price/Stock: https://www.mouser.co.uk/ProductDetail/Taiwan-Semiconductor/SMBJ11CA?qs=tHU%2FlV7kTyTCUC%2F4SrxCEg%3D%3D; Arrow Part Number: SMBJ11CA; Arrow Price/Stock: https://www.arrow.com/en/products/smbj11ca/taiwan-semiconductor
footprint DIONM5436X261N
pins: 1, 2

## SOLDER_BRIDGE_TDROP
designator SB?, comment Solder Bridge
Tension Fill Solder Bridge
footprint Solder Bridge OPEN
footprint SOLDER BRIDGE OPEN SMALL
pins: 1, 2

## SPH-002T-P0.5S
designator HW?

## STANDOFF
designator HW?

## STM32L433CCT6
designator *
MCU 32-bit Ultra Low Power STM32L ARM Cortex-M4 RISC 256kB Flash 48-Pin LQFP ECOPACK2 Tray; Manufacturer: STMicroelectronics; Manufacturer Part Number: STM32L433CCT6; Interface: I2C,SPI,USB,IrDA,MMC,SD,UART,USART; Peripherals: Brown-out Detect/Reset,PWM,WDT,DMA,LCD; Number of I/Os: 38; Oscillator Type: Internal; Data Bus Width: 32b; Max Supply Voltage: 3.6V; Min Supply Voltage: 1.55V; Nominal Supply Current: 10nA; Number of A/D Converters: 1NUMBER; Number of ADC Channels: 10NUMBER; Number of D/A Converters: 2NUMBER; Number of I2C Channels: 3NUMBER; Number of PWM Channels: 14NUMBER; Number of UART Channels: 4NUMBER; RAM Size: 64KB; Supplier 1: Digikey; RoHS: No; Category: Microcontrollers; Stock 1: 11512; Pricing 1: 1=4.14, 10=3.155, 25=2.91, 100=2.6563 (USD); Case/Package: LQFP; Min Operating Temperature: -40°C; Max Operating Temperature: 85°C; Memory Type: FLASH; Packaging: Tray; Core Architecture: ARM; Memory Size: 256KB; Series: STM32L4; Density: 256KB; Number of SPI Channels: 3NUMBER; Number of Timers/Counters: 1NUMBER; Number of USB Channels: 1NUMBER; Height: 1.6mm; RoHS Compliant: Yes; ComponentLink1URL: http://www.farnell.com/datasheets/2283392.pdf?src-supplier=Farnell; ComponentLink1Description: http://www.farnell.com/datasheets/2283392.pdf?src-supplier=Farnell; ComponentLink2URL: http://www.st.com/content/ccc/resource/technical/document/datasheet/f7/a0/fc/27/24/4e/4f/3f/DM00257192.pdf/files/DM00257192.pdf/jcr:content/translations/en.DM00257192.pdf?src-supplier=Digikey; ComponentLink2Description: http://www.st.com/content/ccc/resource/technical/document/datasheet/f7/a0/fc/27/24/4e/4f/3f/DM00257192.pdf/files/DM00257192.pdf/jcr:content/translations/en.DM00257192.pdf?src-supplier=Digikey; ComponentLink3URL: http://www.farnell.com/datasheets/2283392.pdf?src-supplier=Element14; ComponentLink3Description: http://www.farnell.com/datasheets/2283392.pdf?src-supplier=Element14; ComponentLink4URL: https://datasheet.octopart.com/STM32L433CCT6-STMicroelectronics-datasheet-62336854.pdf?src-supplier=Future+Electronics; ComponentLink4Description: https://datasheet.octopart.com/STM32L433CCT6-STMicroelectronics-datasheet-62336854.pdf?src-supplier=Future+Electronics; ComponentLink5URL: http://www.farnell.com/datasheets/2283392.pdf?src-supplier=Newark; ComponentLink5Description: http://www.farnell.com/datasheets/2283392.pdf?src-supplier=Newark; ComponentLink6URL: https://datasheet.octopart.com/STM32L433CCT6-STMicroelectronics-datasheet-82526589.pdf?src-supplier=SHENGYU+ELECTRONICS; ComponentLink6Description: https://datasheet.octopart.com/STM32L433CCT6-STMicroelectronics-datasheet-82526589.pdf?src-supplier=SHENGYU+ELECTRONICS; Supplier Part Number 1: 497-16579-ND
footprint QFP50P900X900X160-48N
pins: 1 VBAT, 2 PC13, 3 PC14, 4 PC15, 5 PH0, 6 PH1, 7 NRST, 8 VREF-, 9 VREF+, 10 PA0, 11 PA1, 12 PA2, 13 PA3, 14 PA4, 15 PA5, 16 PA6, 17 PA7, 18 PB0, 19 PB1, 20 PB2, 21 PB10, 22 PB11, 23 VSS, 24 VDD, 25 PB12, 26 PB13, 27 PB14, 28 PB15, 29 PA8, 30 PA9, 31 PA10, 32 PA11, 33 PA12, 34 PA13, 35 VSS, 36 VDDUSB, 37 PA14, 38 PA15, 39 PB3, 40 PB4, 41 PB5, 42 PB6, 43 PB7, 44 PH3, 45 PB8, 46 PB9, 47 VSS, 48 VDD

## SWICH
designator S?
footprint SWICH
pins: 1, 2, 3

## SWITCH_PANEL MOUNT
designator SW?, comment DPST
SW-T2-3A-A-A2-M2
footprint SWITCH_PANELMOUNT
footprint SWITCH_PCB_MOUNT
footprint SWITCH_PCB_MOUNT
pins: 1, 2, 3, 4

## T73YP503KT20
designator VR?
Variable Resistor; Manufacturer_Name: Vishay; Manufacturer_Part_Number: T73YP503KT20; Datasheet Link: https://www.vishay.com/docs/51016/t73.pdf; Height: 5.12mm; Mouser Part Number: 72-T70YP-50K; Mouser Price/Stock: https://www.mouser.co.uk/ProductDetail/Vishay-Sfernice/T73YP503KT20?qs=h4f6qdGYbtgv8PI9VlWXAA%3D%3D
footprint T73YP503KT20
pins: 1 CCW, 2 WIPER, 3 CW

## TEST_POINT_SMALL
designator TP?, comment Small testpoint 40mil
40mil circular pad no hole
footprint TEST_POINT_SMALL
pins: 1

## Through Hole
designator *
Fiducial Marks
footprint THROUGH HOLE

## TLV76733DGNR
designator IC?
Integrated Circuit; Manufacturer_Name: Texas Instruments; Manufacturer_Part_Number: TLV76733DGNR; Datasheet Link: https://www.ti.com/lit/ds/symlink/tlv767.pdf?ts=1601893180135&ref_url=https%253A%252F%252Fduckduckgo.com%252F; Height: 1.1mm; Mouser Part Number: 595-TLV76733DGNR; Mouser Price/Stock: https://www.mouser.co.uk/ProductDetail/Texas-Instruments/TLV76733DGNR?qs=W%2FMpXkg%252BdQ7WCurh%2FfEdlw%3D%3D; Arrow Part Number: TLV76733DGNR; Arrow Price/Stock: https://www.arrow.com/en/products/tlv76733dgnr/texas-instruments?region=nac
footprint SOP65P490X110-9N
pins: 1 OUT, 2 SNS, 3 NC_1, 4 GND_1, 5 EN, 6 GND_2, 7 NC_2, 8 IN, 9 EP

## TMUX1134PWR
designator IC?
Integrated Circuit; Manufacturer_Name: Texas Instruments; Manufacturer_Part_Number: TMUX1134PWR; Datasheet Link: https://www.ti.com/lit/gpn/TMUX1134; Height: 1.2mm; Mouser Part Number: 595-TMUX1134PWR; Mouser Price/Stock: https://www.mouser.co.uk/ProductDetail/Texas-Instruments/TMUX1134PWR?qs=%252B6g0mu59x7L8VGQncKsYmQ%3D%3D; Arrow Part Number: TMUX1134PWR; Arrow Price/Stock: https://www.arrow.com/en/products/tmux1134pwr/texas-instruments?utm_currency=USD&region=nac
footprint SOP65P640X120-20N
pins: 1 SEL1, 2 S1A, 3 D1, 4 S1B, 5 VSS, 6 GND, 7 S2B, 8 D2, 9 S2A, 10 SEL2, 11 SEL3, 12 S3A, 13 D3, 14 S3B, 15 N.C., 16 VDD, 17 S4B, 18 D4, 19 S4A, 20 SEL4

## Tosklink socket
designator *
footprint TOSLINKSOCKET
pins: 1, 2, 3, 4, 5

## VELCRO_HOOKS
designator HW?, comment ETSG: 28-06-01
ETSG: 28-06-01 / ACST : Tape / Velcro / Hook / / 20mm / Price per cm

## VELCRO_LOOP
designator HW?, comment Velcro tape / Loops / 35mm
ETSG: 28-06-01 / ACST : Tape / Velcro / Hook / / 20mm / Price per cm

## ZRA21MR61H105KE11L
designator C?
Capacitor; Manufacturer_Name: Murata Electronics; Manufacturer_Part_Number: ZRA21MR61H105KE11L; Datasheet Link: https://search.murata.co.jp/Ceramy/image/img/A01X/G101/ENG/ZRA21MR61H105KE11-01A.pdf; Height: 1.2mm; Mouser Part Number: 81-ZRA21MR61H105KE1L; Mouser Price/Stock: https://www.mouser.co.uk/ProductDetail/Murata-Electronics/ZRA21MR61H105KE11L?qs=Ey7%2FXF42M3cFVV4Vawx3dQ%3D%3D
footprint ZRA21MR61H105KE11L
pins: 1, 2